# Altium footprint library 39-01-2225.PcbLib: 1 footprints
Each footprint in its own frame and in the unit in brackets; x right, y up, seen from the top. Pads: shape width x height; smd on the part's side, far side on the other; paste and mask are expansions set on the pad; w line width, h text height; cw(c..) or ccw(c..) is an arc to the next point about the centre after c.
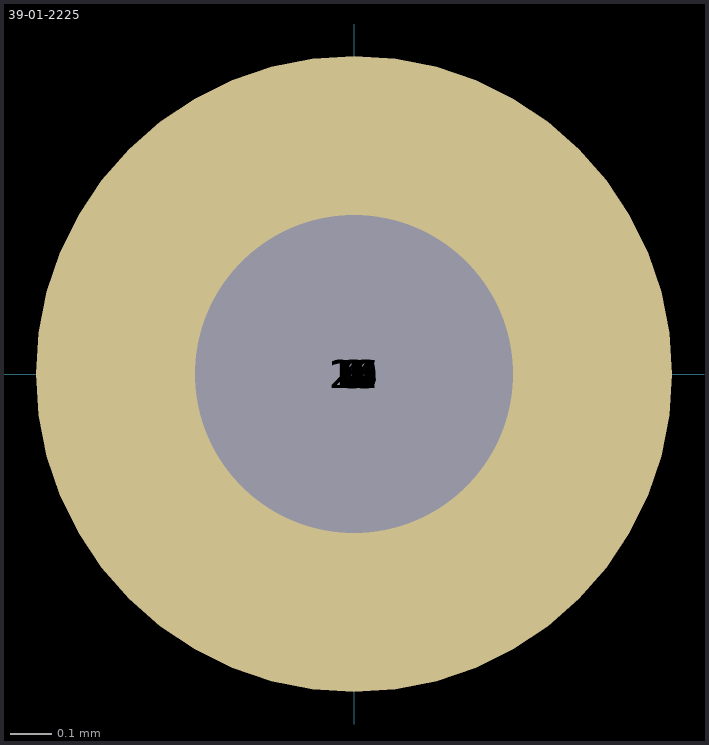
[diagram p0: the footprint, top view; thin cyan lines are the x and y axes]

## 39-01-2225 [mil]
pads (22):
  round 60 hole 30: 1(0,0) 2(0,0) 3(0,0) 4(0,0) 5(0,0) 6(0,0) 7(0,0) 8(0,0) 9(0,0) 10(0,0) 11(0,0) 12(0,0) 13(0,0) 14(0,0) 15(0,0) 16(0,0) 17(0,0) 18(0,0) 19(0,0) 20(0,0) 21(0,0) 22(0,0)
3D body "39-01-2225.stp": height 350.39, standoff -421.26, extent -933.07,-338.58 933.07,228.35